# Altium footprint library L717SDB25P1ACH3R.PcbLib: 1 footprints
Each footprint in its own frame and in the unit in brackets; x right, y up, seen from the top. Pads: shape width x height; smd on the part's side, far side on the other; paste and mask are expansions set on the pad; w line width, h text height; cw(c..) or ccw(c..) is an arc to the next point about the centre after c.
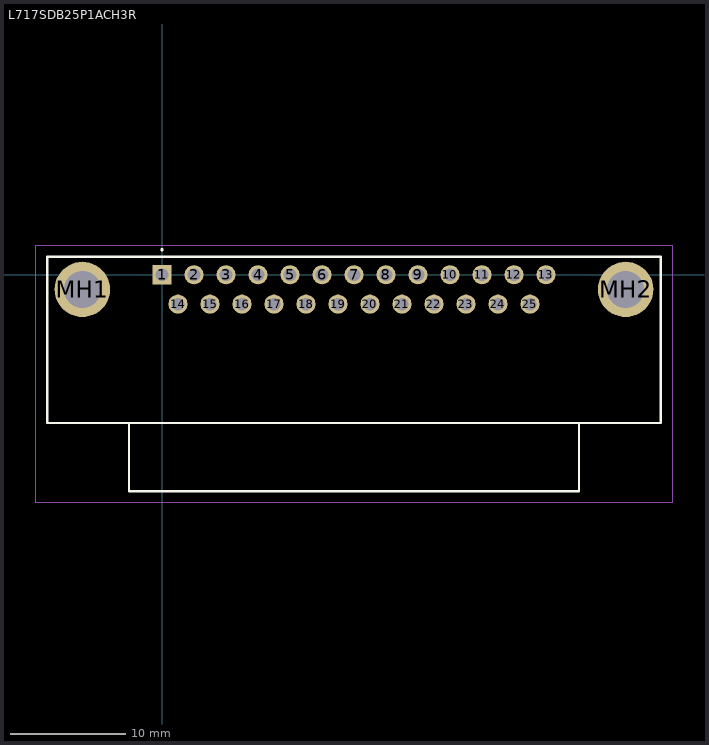
[diagram p0: the footprint, top view; thin cyan lines are the x and y axes]

## L717SDB25P1ACH3R [mm]
pads (27):
  rect 1.65x1.65 hole 1.1: 1(0,0)
  round 1.65 hole 1.1: 2(2.77,0) 3(5.54,0) 4(8.31,0) 5(11.08,0) 6(13.85,0) 7(16.62,0) 8(19.39,0) 9(22.16,0) 10(24.93,0) 11(27.7,0) 12(30.47,0) 13(33.24,0) 14(1.385,-2.54) 15(4.155,-2.54) 16(6.925,-2.54) 17(9.695,-2.54) 18(12.465,-2.54) 19(15.235,-2.54) 20(18.005,-2.54) 21(20.775,-2.54) 22(23.545,-2.54) 23(26.315,-2.54) 24(29.085,-2.54) 25(31.855,-2.54)
  round 4.8 hole 3.2: MH1(-6.9,-1.27) MH2(40.14,-1.27)
Top Overlay:
  lines w0.2: 0,2.1 cw(c0,2.15) 0,2.2 ; 0,2.1 0,2.1 ; 0,2.1 ccw(c0,2.15) 0,2.2 ; 0,2.1 cw(c0,2.15) 0,2.2 ; 0,2.2 0,2.2 ; 0,2.2 0,2.2 ; -9.925,-12.84 43.165,-12.84 43.165,1.56 -9.925,1.56 -9.925,-12.84 ; -2.86,-18.74 36.1,-18.74 36.1,-12.84 -2.86,-12.84 -2.86,-18.74
Mechanical 15:
  lines w0.1: -9.925,-12.84 43.165,-12.84 43.165,1.56 -9.925,1.56 -9.925,-12.84 ; -2.86,-18.74 36.1,-18.74 36.1,-12.84 -2.86,-12.84 -2.86,-18.74
Mechanical 20:
  lines w0.1: -10.925,-19.74 44.165,-19.74 44.165,2.56 -10.925,2.56 -10.925,-19.74